# Altium footprint library connectors.PcbLib: 38 footprints (part 1 of 3)
Each footprint in its own frame and in the unit in brackets; x right, y up, seen from the top. Pads: shape width x height; smd on the part's side, far side on the other; paste and mask are expansions set on the pad; w line width, h text height; cw(c..) or ccw(c..) is an arc to the next point about the centre after c.
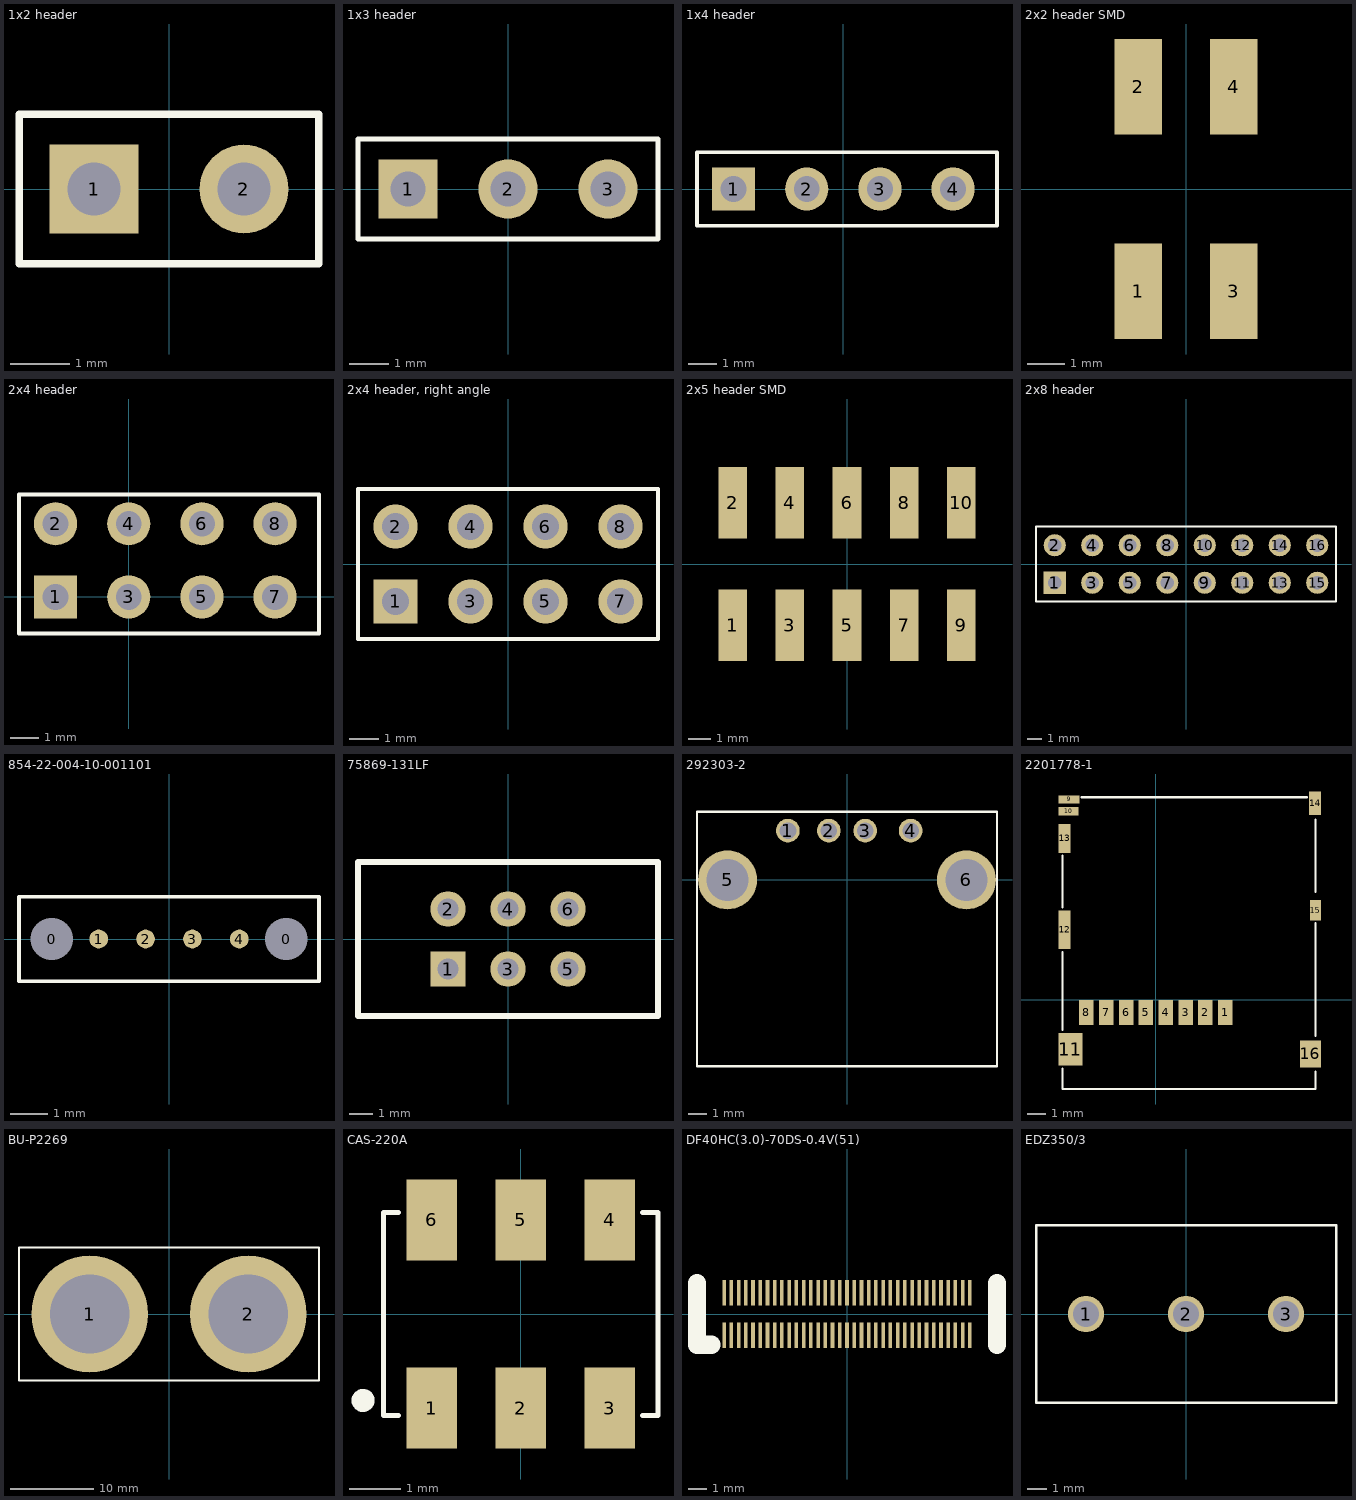
[diagram p0: the footprints below, top view; thin cyan lines are the x and y axes]

## 1x2 header [mm] "1x2 header, 100 mils"
pads (2):
  rect 1.5x1.5 hole 0.9: 1(-1.27,0)
  round 1.5 hole 0.9: 2(1.27,0)
Top Overlay:
  lines w0.127: -2.54,-1.27 2.54,-1.27 2.54,1.27 -2.54,1.27 -2.54,-1.27
3D body: height 8.38, standoff -1.52, extent 0.965,-0.305 1.575,0.305
3D body: height 8.38, standoff -1.52, extent -1.575,-0.305 -0.965,0.305
3D body: height 2.54, standoff 0, extent -2.53,-1.26 2.53,1.26

## 1x3 header [mm] "1x3 header, 100 mils"
pads (3):
  rect 1.5x1.5 hole 0.9: 1(-2.54,0)
  round 1.5 hole 0.9: 2(0,0) 3(2.54,0)
Top Overlay:
  lines w0.127: -3.81,-1.27 3.81,-1.27 3.81,1.27 -3.81,1.27 -3.81,-1.27
3D body: height 8.38, standoff -1.52, extent 2.235,-0.305 2.845,0.305
3D body: height 8.38, standoff -1.52, extent -0.305,-0.305 0.305,0.305
3D body: height 8.38, standoff -1.52, extent -2.845,-0.305 -2.235,0.305
3D body: height 2.54, standoff 0, extent -3.8,-1.25 3.8,1.25

## 1x4 header [mm] "x4 header, 100 mils"
pads (4):
  rect 1.5x1.5 hole 0.9: 1(-3.81,0)
  round 1.5 hole 0.9: 2(-1.27,0) 3(1.27,0) 4(3.81,0)
Top Overlay:
  lines w0.127: -5.08,-1.27 5.334,-1.27 5.334,1.27 -5.08,1.27 -5.08,-1.27
3D body: height 8.38, standoff -1.52, extent 0.965,-0.305 1.575,0.305
3D body: height 8.38, standoff -1.52, extent -1.575,-0.305 -0.965,0.305
3D body: height 8.38, standoff -1.52, extent -4.115,-0.305 -3.505,0.305
3D body: height 2.54, standoff 0, extent -5.07,-1.25 5.334,1.27
3D body: height 8.38, standoff -1.52, extent 3.505,-0.305 4.115,0.305

## 2x2 header SMD [mm] "100 mils header, SMD"
pads (4):
  rect 1.27x2.54 smd: 1(-1.27,-2.73) 2(-1.27,2.73) 3(1.27,-2.73) 4(1.27,2.73)
3D body: height 3.8, standoff 1.26, extent -2.54,-2.413 2.54,2.413
3D body: height 0.62, standoff 0, extent -1.575,0.965 -0.965,3.429
3D body: height 0.62, standoff 0, extent 0.965,0.965 1.575,3.429
3D body: height 0.62, standoff 0, extent 0.965,-3.429 1.575,-0.965
3D body: height 0.62, standoff 0, extent -1.575,-3.429 -0.965,-0.965
3D body: height 9.7, standoff 0, extent -1.575,-1.575 -0.965,-0.965
3D body: height 9.7, standoff 0, extent 0.965,-1.575 1.575,-0.965
3D body: height 9.7, standoff 0, extent 0.965,0.965 1.575,1.575
3D body: height 9.7, standoff 0, extent -1.575,0.965 -0.965,1.575

## 2x4 header [mm] "2x4 header, 100 mils"
pads (8):
  rect 1.5x1.5 hole 0.9: 1(-2.54,0)
  round 1.5 hole 0.9: 2(-2.54,2.54) 3(0,0) 4(0,2.54) 5(2.54,0) 6(2.54,2.54) 7(5.08,0) 8(5.08,2.54)
Top Overlay:
  lines w0.127: -3.81,-1.27 6.604,-1.27 6.604,3.556 -3.81,3.556 -3.81,-1.27
3D body: height 8.38, standoff -1.52, extent -2.845,2.235 -2.235,2.845
3D body: height 8.38, standoff -1.52, extent -0.305,2.235 0.305,2.845
3D body: height 8.38, standoff -1.52, extent 2.235,2.235 2.845,2.845
3D body: height 8.38, standoff -1.52, extent 2.235,-0.305 2.845,0.305
3D body: height 8.38, standoff -1.52, extent -0.305,-0.305 0.305,0.305
3D body: height 8.38, standoff -1.52, extent -2.845,-0.305 -2.235,0.305
3D body: height 2.54, standoff 0, extent -3.8,-1.25 6.604,3.556
3D body: height 8.38, standoff -1.52, extent 4.775,-0.305 5.385,0.305
3D body: height 8.38, standoff -1.52, extent 4.775,2.235 5.385,2.845

## 2x4 header, right angle [mm] "2x4 header, 100 mils, right angle"
pads (8):
  rect 1.5x1.5 hole 0.9: 1(-3.81,-1.27)
  round 1.5 hole 0.9: 2(-3.81,1.27) 3(-1.27,-1.27) 4(-1.27,1.27) 5(1.27,-1.27) 6(1.27,1.27) 7(3.81,-1.27) 8(3.81,1.27)
Top Overlay:
  lines w0.127: -5.08,-2.54 5.08,-2.54 5.08,2.54 -5.08,2.54 -5.08,-2.54
3D body: height 4.32, standoff 3.68, extent 0.96,-11.179 1.581,1.578
3D body: height 4.32, standoff 3.68, extent 3.5,-11.179 4.121,1.578
3D body: height 4.32, standoff 3.68, extent -1.58,-11.182 -0.959,1.575
3D body: height 1.78, standoff 1.14, extent -1.58,-11.192 -0.959,-0.949
3D body: height 1.78, standoff 1.14, extent -4.12,-11.207 -3.499,-0.965
3D body: height 1.78, standoff 1.14, extent 3.5,-11.192 4.121,-0.949
3D body: height 1.78, standoff 1.14, extent 0.96,-11.192 1.581,-0.949
3D body: height 4.32, standoff 3.68, extent -4.12,-11.182 -3.499,1.575
3D body: height 5, standoff 0, extent -5.085,-5.335 5.08,-2.794
3D body: height 4.32, standoff -1.52, extent -4.115,0.965 -3.505,1.575
3D body: height 4.32, standoff -1.52, extent -1.575,0.965 -0.965,1.575
3D body: height 4.32, standoff -1.52, extent 0.965,0.965 1.575,1.575
3D body: height 4.32, standoff -1.52, extent 3.505,0.965 4.115,1.575
3D body: height 1.78, standoff -1.52, extent -4.115,-1.575 -3.505,-0.965
3D body: height 1.78, standoff -1.52, extent -1.575,-1.575 -0.965,-0.965
3D body: height 1.78, standoff -1.52, extent 0.965,-1.575 1.575,-0.965
3D body: height 1.78, standoff -1.52, extent 3.505,-1.575 4.115,-0.965

## 2x5 header SMD [mil] "100 mils header, SMD"
pads (10):
  rect 50x125 smd: 1(-200,-107.5) 2(-200,107.5) 3(-100,-107.5) 4(-100,107.5) 5(0,-107.5) 6(0,107.5) 7(100,-107.5) 8(100,107.5) 9(200,-107.5) 10(200,107.5)
3D body: height 149.61, standoff 49.61, extent -250,-95 250,95
3D body: height 381.89, standoff 0, extent 188,-62 212,-38
3D body: height 24.41, standoff 0, extent 188,-135 212,-38
3D body: height 381.89, standoff 0, extent 88,-62 112,-38
3D body: height 24.41, standoff 0, extent 88,-135 112,-38
3D body: height 381.89, standoff 0, extent -12,-62 12,-38
3D body: height 24.41, standoff 0, extent -12,-135 12,-38
3D body: height 381.89, standoff 0, extent 188,38 212,62
3D body: height 24.41, standoff 0, extent 188,38 212,135
3D body: height 381.89, standoff 0, extent 88,38 112,62
3D body: height 24.41, standoff 0, extent 88,38 112,135
3D body: height 381.89, standoff 0, extent -12,38 12,62
3D body: height 24.41, standoff 0, extent -12,38 12,135
3D body: height 24.41, standoff 0, extent -212,38 -188,135
3D body: height 24.41, standoff 0, extent -112,38 -88,135
3D body: height 24.41, standoff 0, extent -112,-135 -88,-38
3D body: height 24.41, standoff 0, extent -212,-135 -188,-38
3D body: height 381.89, standoff 0, extent -212,-62 -188,-38
3D body: height 381.89, standoff 0, extent -112,-62 -88,-38
3D body: height 381.89, standoff 0, extent -112,38 -88,62
3D body: height 381.89, standoff 0, extent -212,38 -188,62

## 2x8 header [mm] "2x8 header, 100 mils"
pads (16):
  rect 1.5x1.5 hole 0.9: 1(-8.89,-1.27)
  round 1.5 hole 0.9: 2(-8.89,1.27) 3(-6.35,-1.27) 4(-6.35,1.27) 5(-3.81,-1.27) 6(-3.81,1.27) 7(-1.27,-1.27) 8(-1.27,1.27) 9(1.27,-1.27) 10(1.27,1.27) 11(3.81,-1.27) 12(3.81,1.27) 13(6.35,-1.27) 14(6.35,1.27) 15(8.89,-1.27) 16(8.89,1.27)
Top Overlay:
  lines w0.127: -10.16,-2.54 10.16,-2.54 10.16,2.54 -10.16,2.54 -10.16,-2.54
3D body: height 2.54, standoff 0, extent -10.16,-2.54 10.16,2.54
3D body: height 8.38, standoff -1.52, extent -9.195,0.965 -8.585,1.575
3D body: height 8.38, standoff -1.52, extent -9.195,-1.575 -8.585,-0.965
3D body: height 8.38, standoff -1.52, extent -6.655,-1.575 -6.045,-0.965
3D body: height 8.38, standoff -1.52, extent -6.655,0.965 -6.045,1.575
3D body: height 8.38, standoff -1.52, extent -4.115,0.965 -3.505,1.575
3D body: height 8.38, standoff -1.52, extent -4.115,-1.575 -3.505,-0.965
3D body: height 8.38, standoff -1.52, extent -1.575,0.965 -0.965,1.575
3D body: height 8.38, standoff -1.52, extent -1.575,-1.575 -0.965,-0.965
3D body: height 8.38, standoff -1.52, extent 0.965,0.965 1.575,1.575
3D body: height 8.38, standoff -1.52, extent 0.965,-1.575 1.575,-0.965
3D body: height 8.38, standoff -1.52, extent 3.505,0.965 4.115,1.575
3D body: height 8.38, standoff -1.52, extent 3.505,-1.575 4.115,-0.965
3D body: height 8.38, standoff -1.52, extent 6.045,0.965 6.655,1.575
3D body: height 8.38, standoff -1.52, extent 6.045,-1.575 6.655,-0.965
3D body: height 8.38, standoff -1.52, extent 8.585,0.965 9.195,1.575
3D body: height 8.38, standoff -1.52, extent 8.585,-1.575 9.195,-0.965

## 854-22-004-10-001101 [mil] "Spring loaded connector"
pads (6):
  round 20 hole 45: 0(-125,0) 0(125,0)
  round 20 smd: 1(-75,0) 2(-25,0) 3(25,0) 4(75,0)
Top Overlay:
  lines w3.94: -160,-45 -160,45 160,45 160,-45 -160,-45

## 75869-131LF [mm] "CONN HEADER 2.54MM 6POS"
pads (6):
  rect 1.5x1.5 hole 0.9: 1(-2.54,-1.27)
  round 1.5 hole 0.9: 2(-2.54,1.27) 3(0,-1.27) 4(0,1.27) 5(2.54,-1.27) 6(2.54,1.27)
Top Overlay:
  lines w0.254: -6.35,-3.251 6.35,-3.251 6.35,3.251 -6.35,3.251 -6.35,-3.251
3D body: height 2, standoff 0, extent -6.35,-3.251 6.35,3.251
3D body: height 10.11, standoff -3.2, extent -2.743,-1.473 -2.337,-1.067
3D body: height 10.11, standoff -3.2, extent -0.203,-1.473 0.203,-1.067
3D body: height 10.11, standoff -3.2, extent -2.743,1.067 -2.337,1.473
3D body: height 10.11, standoff -3.2, extent -0.203,1.067 0.203,1.473
3D body: height 10.11, standoff -3.2, extent 2.337,1.067 2.743,1.473
3D body: height 10.11, standoff -3.2, extent 2.337,-1.473 2.743,-1.067
3D body: height 10.74, standoff 0, extent -6.35,-3.251 -5.969,3.251
3D body: height 10.74, standoff 0, extent 5.969,-3.251 6.35,3.251
3D body: height 10.74, standoff 0, extent -6.35,2.87 6.35,3.251
3D body: height 10.74, standoff 0, extent -6.35,-3.251 -2.54,-2.87
3D body: height 10.74, standoff 0, extent 2.54,-3.251 6.35,-2.87

## 292303-2 [mm] "USB 2.0 Type A, 4 position receptacle"
pads (6):
  round 1.3 hole 0.92: 1(-3.25,2.71) 2(-1,2.71) 3(1,2.71) 4(3.5,2.71)
  round 3.25 hole 2.3: 5(-6.57,0) 6(6.57,0)
Top Overlay:
  lines w0.127: -8.25,-10.25 -8.25,3.75 8.25,3.75 8.25,-10.25 -8.25,-10.25
3D body: height 7.12, standoff -4.15, extent -8.116,-10.25 8.116,3.75

## 2201778-1 [mm] "Micro SD Slot"
pads (16):
  rect 0.8x1.4 smd: 1(3.85,-0.7) 2(2.75,-0.7) 3(1.65,-0.7) 4(0.55,-0.7) 5(-0.55,-0.7) 6(-1.65,-0.7) 7(-2.75,-0.7) 8(-3.85,-0.7)
  rect 1.15x0.45 smd: 9(-4.815,11.125)
  rect 1.1x0.45 smd: 10(-4.84,10.465)
  rect 1.35x1.8 smd: 11(-4.74,-2.75)
  rect 0.65x2.14 smd: 12(-5.065,3.88)
  rect 0.65x1.6 smd: 13(-5.065,8.96)
  rect 0.65x1.3 smd: 14(8.835,10.9)
  rect 0.6x1.15 smd: 15(8.86,4.975)
  rect 1.16x1.5 smd: 16(8.58,-3)
Top Overlay:
  lines w0.127: -5.175,-3.825 -5.175,-4.95 -5.09,-4.95 8.86,-4.95 8.86,-4 ; -5.175,-1.675 -5.175,2.65 ; -5.175,5.125 -5.175,8 ; -4.125,11.25 8.375,11.25 ; 8.86,-2 8.86,4.25 ; 8.86,6 8.86,10
3D body: height 1.85, standoff 0.05, extent -5.17,-4.95 8.86,11.25

## BU-P2269 [mm] "Standard Banana connector"
pads (2):
  round 14 hole 9.52 mask-0.127: 1(-9.525,0) 2(9.525,0)
Top Overlay:
  lines w0.254: -18,-8 -18,8 18,8 18,-8 -18,-8

## CAS-220A [mm] "CAS-220A"
pads (6):
  rect 1x1.6 smd: 1(-1.75,-1.85) 2(0,-1.85) 3(1.75,-1.85) 4(1.75,1.85) 5(0,1.85) 6(-1.75,1.85)
Top Overlay:
  circle w0.254: c-3.1,-1.7 r0.1
  lines w0.1: -2.4,-2 -2.7,-2 -2.7,2 -2.4,2 ; 2.4,-2 2.7,-2 2.7,2 2.4,2
3D body: height 2.5, standoff 0, extent -2.7,-2 2.7,2

## DF40HC(3.0)-70DS-0.4V(51) [mm] "DF40 Series 0.4 mm Pitch, 3.0 Height, Board-to-Board connectors"
pads (70):
  rect 0.2x1.43 smd: 1(-6.8,-1.175) 2(-6.8,1.175) 3(-6.4,-1.175) 4(-6.4,1.175) 5(-6,-1.175) 6(-6,1.175) 7(-5.6,-1.175) 8(-5.6,1.175) 9(-5.2,-1.175) 10(-5.2,1.175) 11(-4.8,-1.175) 12(-4.8,1.175) 13(-4.4,-1.175) 14(-4.4,1.175) 15(-4,-1.175) 16(-4,1.175) 17(-3.6,-1.175) 18(-3.6,1.175) 19(-3.2,-1.175) 20(-3.2,1.175) 21(-2.8,-1.175) 22(-2.8,1.175) 23(-2.4,-1.175) 24(-2.4,1.175) 25(-2,-1.175) 26(-2,1.175) 27(-1.6,-1.175) 28(-1.6,1.175) 29(-1.2,-1.175) 30(-1.2,1.175) 31(-0.8,-1.175) 32(-0.8,1.175) 33(-0.4,-1.175) 34(-0.4,1.175) 35(0,-1.175) 36(0,1.175) 37(0.4,-1.175) 38(0.4,1.175) 39(0.8,-1.175) 40(0.8,1.175) 41(1.2,-1.175) 42(1.2,1.175) 43(1.6,-1.175) 44(1.6,1.175) 45(2,-1.175) 46(2,1.175) 47(2.4,-1.175) 48(2.4,1.175) 49(2.8,-1.175) 50(2.8,1.175) 51(3.2,-1.175) 52(3.2,1.175) 53(3.6,-1.175) 54(3.6,1.175) 55(4,-1.175) 56(4,1.175) 57(4.4,-1.175) 58(4.4,1.175) 59(4.8,-1.175) 60(4.8,1.175) 61(5.2,-1.175) 62(5.2,1.175) 63(5.6,-1.175) 64(5.6,1.175) 65(6,-1.175) 66(6,1.175) 67(6.4,-1.175) 68(6.4,1.175) 69(6.8,-1.175) 70(6.8,1.175)
Top Overlay:
  lines w1: -8.3,1.7 -8.3,-1.7 -7.5,-1.7 ; 8.3,-1.7 8.3,1.7
3D body: height 2.9, standoff 0, extent -8.3,-1.68 8.3,1.7

## EDZ350/3 [mm] "On Shore Tech. EDZ350/3 50.8 mm pitch"
pads (3):
  round 1.85 hole 1.3: 1(-5.08,0) 2(0,0) 3(5.08,0)
Top Overlay:
  lines w0.127: -7.62,-4.5 -7.62,4.5 7.62,4.5 7.62,-4.5 -7.62,-4.5
3D body: height 13.5, standoff 0, extent -7.62,-4.445 7.62,4.445